# Altium schematic symbol library APX803-46SAG-7.Schlib: 1 symbol
Pins are listed as number, name and electrical type; pins without a type are passive.

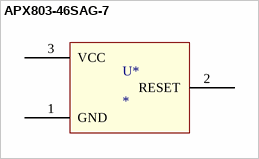
[diagram p0: symbol APX803-46SAG-7]

## APX803-46SAG-7
designator U*
SOT-23(SOT-23-3) Microprocessor & Microcontroller Supervisors RoHS; ComponentLink1Description: LCSC - Diodes Incorporated APX803-46SAG-7; ComponentLink1URL: https://lcsc.com/product-detail/Microprocessor-Microcontroller-Supervisors_DIODES_APX803-46SAG-7_APX803-46SAG-7_C155215.html/?href=jlc-SMT; LCSC Part #: C155215; JLCPCB Part type: Extended
footprint SOT23-3
pins: 1 GND, 2 RESET, 3 VCC